# Altium schematic symbol library CPLD_FPGA_logic.SchLib: 8 symbols
Pins are listed as number, name and electrical type; pins without a type are passive.

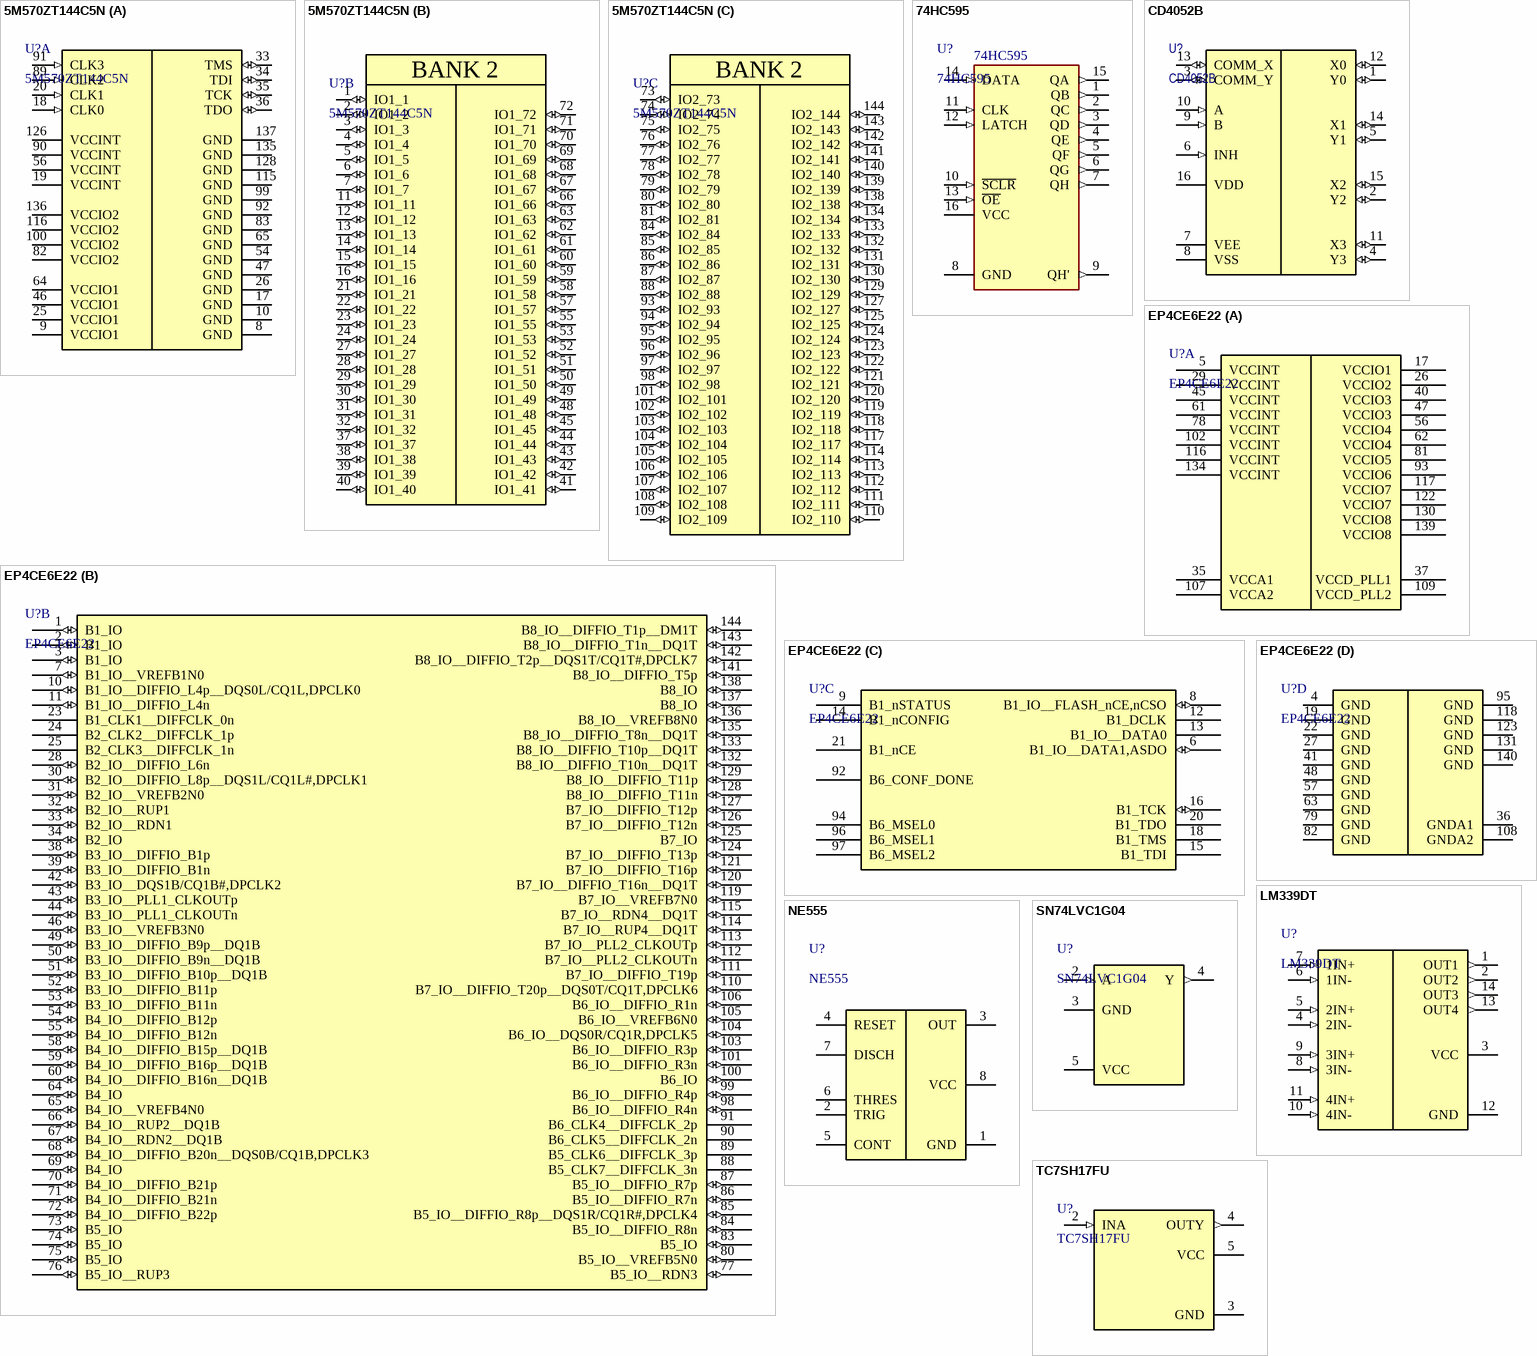
[diagram p0: symbols 5M570ZT144C5N to TC7SH17FU]

## 5M570ZT144C5N
designator U?
MAX V; IsSMT: NoSMT; Order: 5M570ZT144C5N; BuyLink1: https://lcsc.com/product-detail/CPLD-FPGA_Altera-5M570ZT144C5N_C569017.html; LCSC Part #: C569017
footprint LQFP-144
part A pins: 8 GND (power), 9 VCCIO1 (power), 10 GND (power), 17 GND (power), 18 CLK0 (in), 19 VCCINT (power), 20 CLK1 (in), 25 VCCIO1 (power), 26 GND (power), 33 TMS (io), 34 TDI (io), 35 TCK (io), 36 TDO (io), 46 VCCIO1 (power), 47 GND (power), 54 GND (power), 56 VCCINT (power), 64 VCCIO1 (power), 65 GND (power), 82 VCCIO2 (power), 83 GND (power), 89 CLK2 (in), 90 VCCINT (power), 91 CLK3 (in), 92 GND (power), 99 GND (power), 100 VCCIO2 (power), 115 GND (power), 116 VCCIO2 (power), 126 VCCINT (power), 128 GND (power), 135 GND (power), 136 VCCIO2 (power), 137 GND (power)
part B pins: 1 IO1_1 (io), 2 IO1_2 (io), 3 IO1_3 (io), 4 IO1_4 (io), 5 IO1_5 (io), 6 IO1_6 (io), 7 IO1_7 (io), 11 IO1_11 (io), 12 IO1_12 (io), 13 IO1_13 (io), 14 IO1_14 (io), 15 IO1_15 (io), 16 IO1_16 (io), 21 IO1_21 (io), 22 IO1_22 (io), 23 IO1_23 (io), 24 IO1_24 (io), 27 IO1_27 (io), 28 IO1_28 (io), 29 IO1_29 (io), 30 IO1_30 (io), 31 IO1_31 (io), 32 IO1_32 (io), 37 IO1_37 (io), 38 IO1_38 (io), 39 IO1_39 (io), 40 IO1_40 (io), 41 IO1_41 (io), 42 IO1_42 (io), 43 IO1_43 (io), 44 IO1_44 (io), 45 IO1_45 (io), 48 IO1_48 (io), 49 IO1_49 (io), 50 IO1_50 (io), 51 IO1_51 (io), 52 IO1_52 (io), 53 IO1_53 (io), 55 IO1_55 (io), 57 IO1_57 (io), 58 IO1_58 (io), 59 IO1_59 (io), 60 IO1_60 (io), 61 IO1_61 (io), 62 IO1_62 (io), 63 IO1_63 (io), 66 IO1_66 (io), 67 IO1_67 (io), 68 IO1_68 (io), 69 IO1_69 (io), 70 IO1_70 (io), 71 IO1_71 (io), 72 IO1_72 (io)
part C pins: 73 IO2_73 (io), 74 IO2_74 (io), 75 IO2_75 (io), 76 IO2_76 (io), 77 IO2_77 (io), 78 IO2_78 (io), 79 IO2_79 (io), 80 IO2_80 (io), 81 IO2_81 (io), 84 IO2_84 (io), 85 IO2_85 (io), 86 IO2_86 (io), 87 IO2_87 (io), 88 IO2_88 (io), 93 IO2_93 (io), 94 IO2_94 (io), 95 IO2_95 (io), 96 IO2_96 (io), 97 IO2_97 (io), 98 IO2_98 (io), 101 IO2_101 (io), 102 IO2_102 (io), 103 IO2_103 (io), 104 IO2_104 (io), 105 IO2_105 (io), 106 IO2_106 (io), 107 IO2_107 (io), 108 IO2_108 (io), 109 IO2_109 (io), 110 IO2_110 (io), 111 IO2_111 (io), 112 IO2_112 (io), 113 IO2_113 (io), 114 IO2_114 (io), 117 IO2_117 (io), 118 IO2_118 (io), 119 IO2_119 (io), 120 IO2_120 (io), 121 IO2_121 (io), 122 IO2_122 (io), 123 IO2_123 (io), 124 IO2_124 (io), 125 IO2_125 (io), 127 IO2_127 (io), 129 IO2_129 (io), 130 IO2_130 (io), 131 IO2_131 (io), 132 IO2_132 (io), 133 IO2_133 (io), 134 IO2_134 (io), 138 IO2_138 (io), 139 IO2_139 (io), 140 IO2_140 (io), 141 IO2_141 (io), 142 IO2_142 (io), 143 IO2_143 (io), 144 IO2_144 (io)
part B text: BANK 2
part C text: BANK 2

## 74HC595
designator U?
shift registern
footprint SO-16
pins: 1 QB (out), 2 QC (out), 3 QD (out), 4 QE (out), 5 QF (out), 6 QG (out), 7 QH (out), 8 GND (power), 9 QH' (out), 10 ~{SCLR} (in), 11 CLK (in), 12 LATCH (in), 13 ~{OE} (in), 14 DATA (in), 15 QA (out), 16 VCC (power)

## CD4052B
designator U?
footprint SO-16
pins: 1 Y0 (io), 2 Y2 (io), 3 COMM_Y (io), 4 Y3 (io), 5 Y1 (io), 6 INH (in), 7 VEE (power), 8 VSS (power), 9 B (in), 10 A (in), 11 X3 (io), 12 X0 (io), 13 COMM_X (io), 14 X1 (io), 15 X2 (io), 16 VDD (power)

## EP4CE6E22
designator U?
Cyclone IV; Order: *
footprint EQFP-144L_EP4CE6E22 (SQFP, 144-Leads, Body 20,00x20,00mm, Pitch 0,50mm, IPC Medium Density)
footprint EQFP-144M_EP4CE6E22
footprint EQFP-144N_EP4CE6E22
part A pins: 5 VCCINT (power), 17 VCCIO1 (power), 26 VCCIO2 (power), 29 VCCINT (power), 35 VCCA1 (power), 37 VCCD_PLL1 (power), 40 VCCIO3 (power), 45 VCCINT (power), 47 VCCIO3 (power), 56 VCCIO4 (power), 61 VCCINT (power), 62 VCCIO4 (power), 78 VCCINT (power), 81 VCCIO5 (power), 93 VCCIO6 (power), 102 VCCINT (power), 107 VCCA2 (power), 109 VCCD_PLL2 (power), 116 VCCINT (power), 117 VCCIO7 (power), 122 VCCIO7 (power), 130 VCCIO8 (power), 134 VCCINT (power), 139 VCCIO8 (power)
part B pins: 1 B1_IO (io), 2 B1_IO (io), 3 B1_IO (io), 7 B1_IO__VREFB1N0 (io), 10 B1_IO__DIFFIO_L4p__DQS0L/CQ1L,DPCLK0 (io), 11 B1_IO__DIFFIO_L4n (io), 23 B1_CLK1__DIFFCLK_0n, 24 B2_CLK2__DIFFCLK_1p, 25 B2_CLK3__DIFFCLK_1n, 28 B2_IO__DIFFIO_L6n (io), 30 B2_IO__DIFFIO_L8p__DQS1L/CQ1L#,DPCLK1 (io), 31 B2_IO__VREFB2N0 (io), 32 B2_IO__RUP1 (io), 33 B2_IO__RDN1 (io), 34 B2_IO (io), 38 B3_IO__DIFFIO_B1p (io), 39 B3_IO__DIFFIO_B1n (io), 42 B3_IO__DQS1B/CQ1B#,DPCLK2 (io), 43 B3_IO__PLL1_CLKOUTp (io), 44 B3_IO__PLL1_CLKOUTn (io), 46 B3_IO__VREFB3N0 (io), 49 B3_IO__DIFFIO_B9p__DQ1B (io), 50 B3_IO__DIFFIO_B9n__DQ1B (io), 51 B3_IO__DIFFIO_B10p__DQ1B (io), 52 B3_IO__DIFFIO_B11p (io), 53 B3_IO__DIFFIO_B11n (io), 54 B4_IO__DIFFIO_B12p (io), 55 B4_IO__DIFFIO_B12n (io), 58 B4_IO__DIFFIO_B15p__DQ1B (io), 59 B4_IO__DIFFIO_B16p__DQ1B (io), 60 B4_IO__DIFFIO_B16n__DQ1B (io), 64 B4_IO (io), 65 B4_IO__VREFB4N0 (io), 66 B4_IO__RUP2__DQ1B (io), 67 B4_IO__RDN2__DQ1B (io), 68 B4_IO__DIFFIO_B20n__DQS0B/CQ1B,DPCLK3 (io), 69 B4_IO (io), 70 B4_IO__DIFFIO_B21p (io), 71 B4_IO__DIFFIO_B21n (io), 72 B4_IO__DIFFIO_B22p (io), 73 B5_IO (io), 74 B5_IO (io), 75 B5_IO (io), 76 B5_IO__RUP3 (io), 77 B5_IO__RDN3 (io), 80 B5_IO__VREFB5N0 (io), 83 B5_IO (io), 84 B5_IO__DIFFIO_R8n (io), 85 B5_IO__DIFFIO_R8p__DQS1R/CQ1R#,DPCLK4 (io), 86 B5_IO__DIFFIO_R7n (io), 87 B5_IO__DIFFIO_R7p (io), 88 B5_CLK7__DIFFCLK_3n, 89 B5_CLK6__DIFFCLK_3p, 90 B6_CLK5__DIFFCLK_2n, 91 B6_CLK4__DIFFCLK_2p, 98 B6_IO__DIFFIO_R4n (io), 99 B6_IO__DIFFIO_R4p (io), 100 B6_IO (io), 101 B6_IO__DIFFIO_R3n (io), 103 B6_IO__DIFFIO_R3p (io), 104 B6_IO__DQS0R/CQ1R,DPCLK5 (io), 105 B6_IO__VREFB6N0 (io), 106 B6_IO__DIFFIO_R1n (io), 110 B7_IO__DIFFIO_T20p__DQS0T/CQ1T,DPCLK6 (io), 111 B7_IO__DIFFIO_T19p (io), 112 B7_IO__PLL2_CLKOUTn (io), 113 B7_IO__PLL2_CLKOUTp (io), 114 B7_IO__RUP4__DQ1T (io), 115 B7_IO__RDN4__DQ1T (io), 119 B7_IO__VREFB7N0 (io), 120 B7_IO__DIFFIO_T16n__DQ1T (io), 121 B7_IO__DIFFIO_T16p (io), 124 B7_IO__DIFFIO_T13p (io), 125 B7_IO (io), 126 B7_IO__DIFFIO_T12n (io), 127 B7_IO__DIFFIO_T12p (io), 128 B8_IO__DIFFIO_T11n (io), 129 B8_IO__DIFFIO_T11p (io), 132 B8_IO__DIFFIO_T10n__DQ1T (io), 133 B8_IO__DIFFIO_T10p__DQ1T (io), 135 B8_IO__DIFFIO_T8n__DQ1T (io), 136 B8_IO__VREFB8N0 (io), 137 B8_IO (io), 138 B8_IO (io), 141 B8_IO__DIFFIO_T5p (io), 142 B8_IO__DIFFIO_T2p__DQS1T/CQ1T#,DPCLK7 (io), 143 B8_IO__DIFFIO_T1n__DQ1T (io), 144 B8_IO__DIFFIO_T1p__DM1T (io)
part C pins: 6 B1_IO__DATA1,ASDO (io), 8 B1_IO__FLASH_nCE,nCSO (io), 9 B1_nSTATUS, 12 B1_DCLK, 13 B1_IO__DATA0, 14 B1_nCONFIG, 15 B1_TDI, 16 B1_TCK (io), 18 B1_TMS, 20 B1_TDO, 21 B1_nCE, 92 B6_CONF_DONE, 94 B6_MSEL0, 96 B6_MSEL1, 97 B6_MSEL2
part D pins: 4 GND (power), 19 GND (power), 22 GND (power), 27 GND (power), 36 GNDA1 (power), 41 GND (power), 48 GND (power), 57 GND (power), 63 GND (power), 79 GND (power), 82 GND (power), 95 GND (power), 108 GNDA2 (power), 118 GND (power), 123 GND (power), 131 GND (power), 140 GND (power)

## LM339DT
designator U?
4 comparator
footprint SO-14
pins: 1 OUT1 (out), 2 OUT2 (out), 3 VCC (power), 4 2IN- (in), 5 2IN+ (in), 6 1IN- (in), 7 1IN+ (in), 8 3IN- (in), 9 3IN+ (in), 10 4IN- (in), 11 4IN+ (in), 12 GND (power), 13 OUT4 (out), 14 OUT3 (out)

## NE555
designator U?
555 timer
footprint SO-8 (Small Outline; 8 Leads; Body Width 3.9 mm; Pitch 1.27 mm)
pins: 1 GND, 2 TRIG, 3 OUT, 4 RESET, 5 CONT, 6 THRES, 7 DISCH, 8 VCC

## SN74LVC1G04
designator U?
logic inverter
footprint SOT-323-5 (SC-70-5) (TSOP, 6-Leads, Body 2.00x1.25mm, Pitch 0.65mm, IPC Medium Density)
pins: 2 A (in), 3 GND (power), 4 Y (out), 5 VCC (power)

## TC7SH17FU
designator U?
Buffer
footprint SOT-353-5 (SOT23, 5-Leads, Body 2,00x2,10mm, Pitch 0,65mm, IPC Medium Density)
pins: 2 INA (in), 3 GND, 4 OUTY (out), 5 VCC